# Altium footprint library MELF - Diode.PcbLib: 5 footprints
Each footprint in its own frame and in the unit in brackets; x right, y up, seen from the top. Pads: shape width x height; smd on the part's side, far side on the other; paste and mask are expansions set on the pad; w line width, h text height; cw(c..) or ccw(c..) is an arc to the next point about the centre after c.
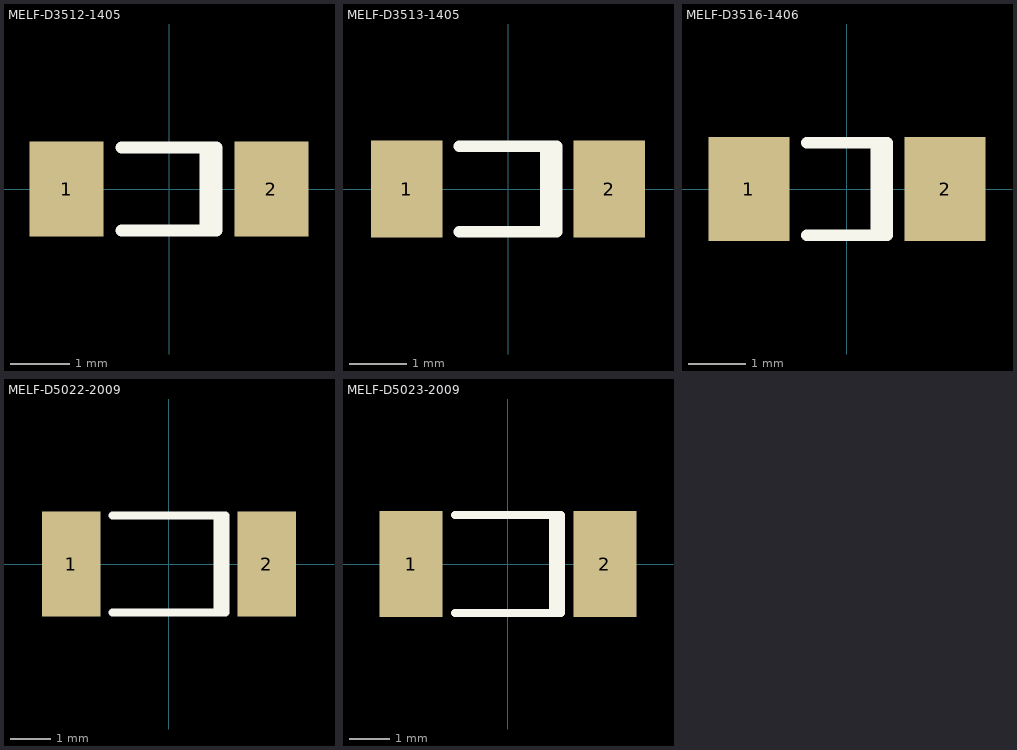
[diagram p0: the footprints below, top view; thin cyan lines are the x and y axes]

## MELF-D3512-1405 [mm] "Metal Electrode Face (MELF) Diode; Body 3.5 x 1.5 mm (LxDia)"
height 1.5
pads (2):
  rect 1.25x1.6 smd: 1(-1.725,0) 2(1.725,0)
Top Overlay:
  lines w0.2: -0.8,-0.7 0.8,-0.7 0.8,0.7 -0.8,0.7 ; 0.61,-0.7 0.61,0.7

## MELF-D3513-1405 [mm] "Metal Electrode Face (MELF) Diode; Body 3.5 x 1.6 mm (LxDia)"
height 1.6
pads (2):
  rect 1.25x1.7 smd: 1(-1.775,0) 2(1.775,0)
Top Overlay:
  lines w0.2: -0.85,-0.75 0.85,-0.75 0.85,0.75 -0.85,0.75 ; 0.66,-0.75 0.66,0.75

## MELF-D3516-1406 [mm] "Metal Electrode Face (MELF) Diode; Body 3.5 x 1.7 mm (LxDia)"
height 1.7
pads (2):
  rect 1.4x1.8 smd: 1(-1.7,0) 2(1.7,0)
Top Overlay:
  lines w0.2: -0.7,-0.8 0.7,-0.8 0.7,0.8 -0.7,0.8 ; 0.51,-0.8 0.51,0.8

## MELF-D5022-2009 [mm] "Metal Electrode Face (MELF) Diode; Body 5 x 2.5 mm (LxDia)"
height 2.54
pads (2):
  rect 1.45x2.6 smd: 1(-2.425,0) 2(2.425,0)
Top Overlay:
  lines w0.2: -1.4,-1.2 1.4,-1.2 1.4,1.2 -1.4,1.2 ; 1.21,-1.2 1.21,1.2

## MELF-D5023-2009 [mm] "Metal Electrode Face (MELF) Diode; Body 5 x 2.5 mm (LxDia)"
height 2.5
pads (2):
  rect 1.55x2.6 smd: 1(-2.375,0) 2(2.375,0)
Top Overlay:
  lines w0.2: -1.3,-1.2 1.3,-1.2 1.3,1.2 -1.3,1.2 ; 1.11,-1.2 1.11,1.2